# Altium footprint library Transistors Through Hole.PcbLib: 2 footprints
Each footprint in its own frame and in the unit in brackets; x right, y up, seen from the top. Pads: shape width x height; smd on the part's side, far side on the other; paste and mask are expansions set on the pad; w line width, h text height; cw(c..) or ccw(c..) is an arc to the next point about the centre after c.
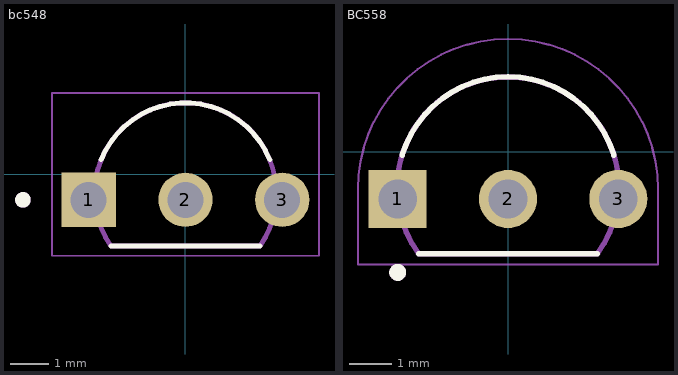
[diagram p0: the footprints below, top view; thin cyan lines are the x and y axes]

## bc548 [mm]
pads (3):
  rect 1.4x1.4 hole 0.93: 1(-2.5,-0.655)
  round 1.4 hole 0.93: 2(0,-0.655) 3(2.5,-0.655)
Top Overlay:
  circle w0.2: c-4.2,-0.655 r0.1
  lines w0.127: -2.179,0.38 cw(c0,-0.5) 2.179,0.38 ; -1.924,-1.85 1.924,-1.85 -1.924,-1.85
Mechanical 13:
  circle w0.2: c-4.2,-0.655 r0.1
  lines w0.127: -1.925,-1.848 cw(c0,-0.5) 1.925,-1.848 ; -1.924,-1.85 1.924,-1.85
Mechanical 15:
  lines w0.05: -3.45,-2.1 -3.45,2.1 3.45,2.1 3.45,-2.1 -3.45,-2.1
3D body "step_temp.STEP": height 7.74, standoff -1.66, extent -2.399,-1.533 2.399,2.4

## BC558 [mm]
height 9.33
pads (3):
  rect 1.37x1.37 / inner round 1.37 / far side rect 1.37x1.37 hole 0.91: 1(-2.6,-1.112)
  round 1.37 hole 0.91: 2(0,-1.112) 3(2.6,-1.112)
Top Overlay:
  circle w0.2: c-2.6,-2.843 r0.1
  lines w0.127: -2.493,-0.078 cw(c0,-0.841) 2.493,-0.078 ; -2.102,-2.408 2.102,-2.408
Mechanical 13:
  circle w0.2: c-2.6,-2.843 r0.1
  lines w0.127: -2.115,-2.39 cw(c0,-0.853) 2.115,-2.39 ; -2.102,-2.408 2.102,-2.408
Mechanical 15:
  lines w0.05: -3.535,-2.66 -3.535,-0.878 cw(c0,-0.878) 3.535,-0.878 3.535,-2.66 -3.535,-2.66
3D body "transistor.stp.STEP": height 6.98, standoff -1.18, extent -2.82,-2.408 2.82,1.393